# Altium schematic symbol library TS16-1212-95-BK-160-SMT-TR.SchLib: 1 symbol
Pins are listed as number, name and electrical type; pins without a type are passive.

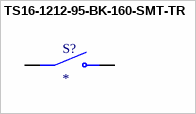
[diagram p0: symbol TS16-1212-95-BK-160-SMT-TR]

## TS16-1212-95-BK-160-SMT-TR
designator S?
12 x 12 mm, 9.5 mm Actuactor Height, 160gf, Black, Surface Mount, TR, SPST, Tactile Switch; MF: Same Sky; MP: TS16-1212-95-BK-160-SMT-TR; SnapEDA_Link: https://www.snapeda.com/parts/TS16-1212-95-BK-160-SMT-TR/Same+Sky/view-part/?ref=snap; Package: None; Value: *; Check_prices: https://www.snapeda.com/parts/TS16-1212-95-BK-160-SMT-TR/Same+Sky/view-part/?ref=eda
footprint SW_TS16-1212-95-BK-160-SMT-TR
pins: 1 NO, 2 NO, 3 COM, 4 COM